# Altium footprint library gamma_kicker.PcbLib: 23 footprints (part 2 of 2)
Each footprint in its own frame and in the unit in brackets; x right, y up, seen from the top. Pads: shape width x height; smd on the part's side, far side on the other; paste and mask are expansions set on the pad; w line width, h text height; cw(c..) or ccw(c..) is an arc to the next point about the centre after c.
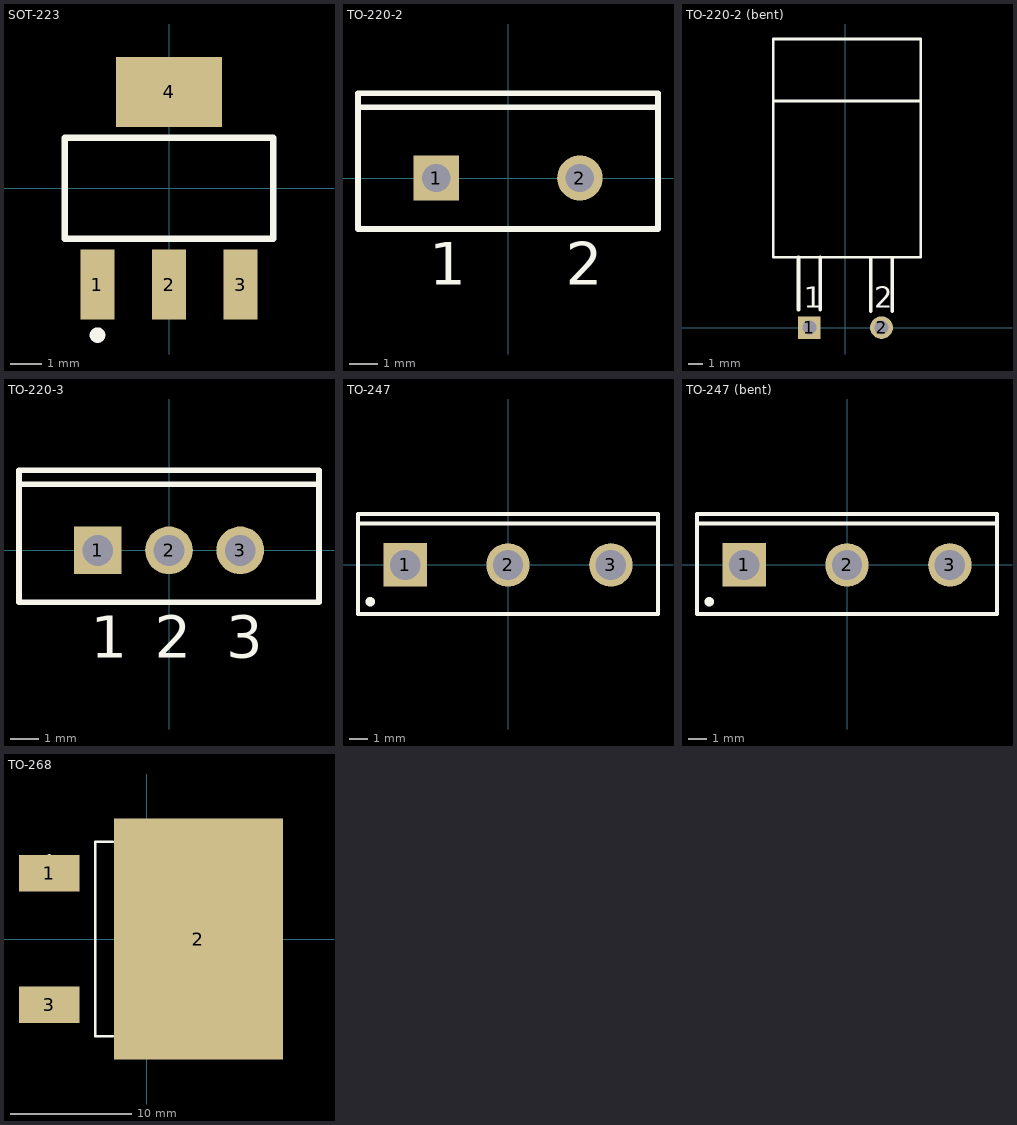
[diagram p1: the footprints below, top view; thin cyan lines are the x and y axes]

## SOT-223 [mm] "SOT-223/SC-73; 4 Leads; Body 6.7 x 7.3 mm, inc. leads (LxW max)"
height 1.7
pads (4):
  rect 1.1x2.25 smd: 1(-2.3,-3.1) 2(0,-3.1) 3(2.3,-3.1)
  rect 3.4x2.25 smd: 4(0,3.1)
Top Overlay:
  circle w0.25: c-2.3,-4.725 r0.125
  lines w0.2: -3.35,-1.625 -3.35,1.625 3.35,1.625 3.35,-1.625 -3.35,-1.625
3D body: height 1.39, standoff -0.26, extent -3.25,-3.373 3.25,3.627

## TO-220-2 [mm] "TO, Thru-Hole, Vertical, Heatsink Mounted; 3 In-Line Leads (1 Absent); Pitch 2.54 mm"
height 19.3
pads (2):
  rect 1.6x1.6 hole 1: 1(-2.54,0)
  round 1.6 hole 1: 2(2.54,0)
Top Overlay:
  lines w0.2: -5.3,2.5 5.3,2.5 ; -5.3,-1.8 -5.3,3 5.3,3 5.3,-1.8 -5.3,-1.8
  text "1" at -2.79,-3.775 h1.5
  text "2" at 2.04,-3.775 h1.5
3D body: height 19.5, standoff -2.7, extent -5,-1.651 5,2.849

## TO-220-2 (bent) [mm] "TO, Thru-Hole, Vertical, Heatsink Mounted; 3 In-Line Leads (1 Absent); Pitch 2.54 mm"
height 19.3
pads (2):
  rect 1.6x1.6 hole 1: 1(-2.54,0)
  round 1.6 hole 1: 2(2.54,0)
Top Overlay:
  lines w0.2: -5.08,15.962 5.3,15.962 ; -5.08,4.953 -5.08,20.32 5.3,20.32 5.3,4.953 -5.08,4.953
  lines w0.254: -3.302,1.27 -3.302,4.953 ; -1.778,1.27 -1.778,4.953 ; 1.778,1.143 1.778,4.826 ; 3.302,1.143 3.302,4.826
  text "1" at -2.921,1.397 h1.5
  text "2" at 2.032,1.397 h1.5
3D body: height 4.5, standoff -2.57, extent -4.793,-0.381 5.207,20.219

## TO-220-3 [mm] "TO, Thru-Hole, Vertical, Heatsink Mounted; 3 In-Line Leads; Pitch 2.54 mm"
height 22.9
pads (3):
  rect 1.7x1.7 hole 1.1: 1(-2.54,0)
  round 1.7 hole 1.1: 2(0,0) 3(2.54,0)
Top Overlay:
  lines w0.2: -5.35,2.35 5.35,2.35 ; -5.35,-1.85 5.35,-1.85 5.35,2.85 -5.35,2.85 -5.35,-1.85
  text "1" at -2.79,-3.825 h1.5
  text "2" at -0.5,-3.825 h1.5
  text "3" at 2.04,-3.825 h1.5
3D body: height 19.3, standoff -9.55, extent -5.207,-1.752 4.953,3.048

## TO-247 [mm]
height 24.6
pads (3):
  rect 2.3x2.3 hole 1.6: 1(-5.45,0)
  round 2.3 hole 1.6: 2(0,0) 3(5.45,0)
Top Overlay:
  circle w0.25: c-7.3,-1.95 r0.125
  lines w0.2: -7.95,2.2 7.95,2.2 ; -7.95,-2.6 -7.95,2.7 7.95,2.7 7.95,-2.6 -7.95,-2.6
Mechanical 13:
  lines w0.1: -7.95,-2.6 -7.95,2.7 7.95,2.7 7.95,-2.6 -7.95,-2.6
Mechanical 15:
  lines w0.1: -0.5,0 0.5,0 ; 0,-0.5 0,0.5
3D body: height 24.6, standoff 3.7, extent -7.949,-2.599 7.949,2.699
3D body: height 25.55, standoff -15.85, extent -8,-2.2 8,2.8

## TO-247 (bent) [mm]
height 24.6
pads (3):
  rect 2.3x2.3 hole 1.6: 1(-5.45,0)
  round 2.3 hole 1.6: 2(0,0) 3(5.45,0)
Top Overlay:
  circle w0.25: c-7.3,-1.95 r0.125
  lines w0.2: -7.95,2.2 7.95,2.2 ; -7.95,-2.6 7.95,-2.6 7.95,2.7 -7.95,2.7 -7.95,-2.6
Mechanical 13:
  lines w0.1: -7.95,-2.6 7.95,-2.6 7.95,2.7 -7.95,2.7 -7.95,-2.6
Mechanical 15:
  lines w0.1: -0.5,0 0.5,0 ; 0,-0.5 0,0.5
3D body: height 6.4, standoff -5.6, extent -8.001,-0.283 7.899,26.699

## TO-268 [mm]
height 5.1
pads (3):
  rect 5x3 smd: 1(-8.1,5.45) 3(-8.1,-5.45)
  rect 14x20 smd: 2(4.25,0)
Top Overlay:
  circle w0.25: c-8.1,6.775 r0.125
  lines w0.2: -2.83,-8.05 -4.28,-8.05 -4.28,8.05 -2.83,8.05
Mechanical 13:
  lines w0.1: 8.45,-8.025 8.45,8.025
3D body: height 5.1, standoff 0, extent -8.268,-8.001 10.782,8.001